# Altium footprint library Pin_Header_Series_PCB_Library_ARAF.PcbLib: 5 footprints
Each footprint in its own frame and in the unit in brackets; x right, y up, seen from the top. Pads: shape width x height; smd on the part's side, far side on the other; paste and mask are expansions set on the pad; w line width, h text height; cw(c..) or ccw(c..) is an arc to the next point about the centre after c.
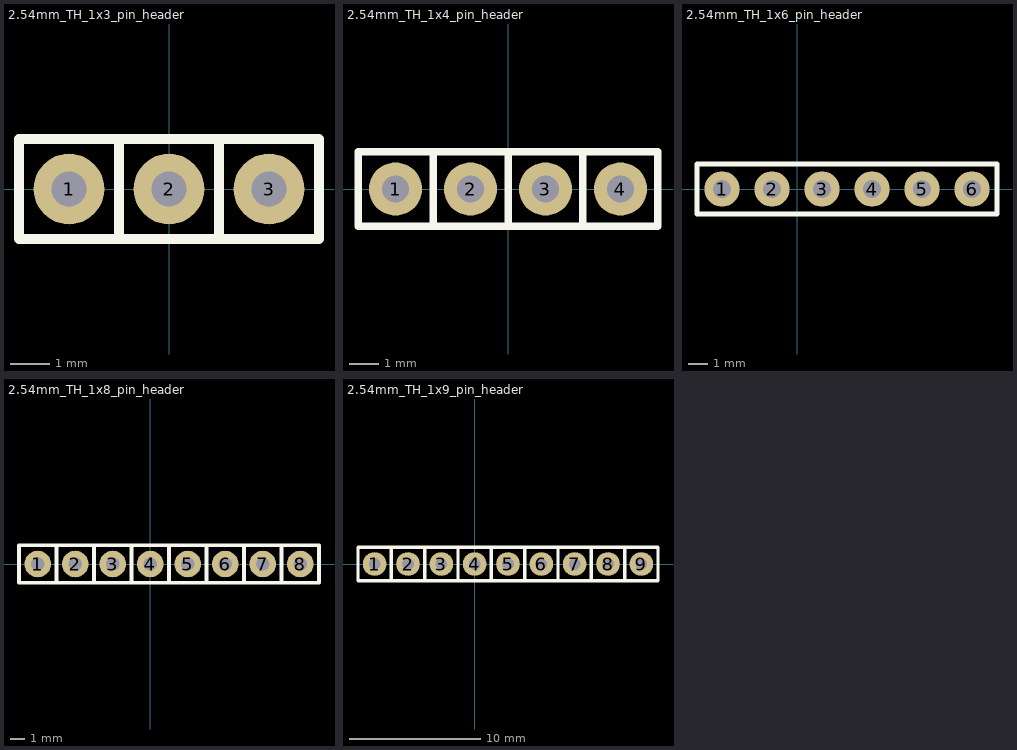
[diagram p0: the footprints below, top view; thin cyan lines are the x and y axes]

## 2.54mm_TH_1x3_pin_header [mm]
pads (3):
  round 1.8 hole 0.9: 1(-2.54,0) 2(0,0) 3(2.54,0)
Top Overlay:
  lines w0.254: -1.27,-1.27 -1.27,1.27 ; 1.27,-1.27 1.27,1.27 ; -3.81,-1.27 3.81,-1.27 3.81,1.27 -3.81,1.27 -3.81,-1.27
3D body "2.54_pin_header_1x3_yellow.STEP": height 8.6, standoff -3, extent -3.81,-1.25 3.81,1.25

## 2.54mm_TH_1x4_pin_header [mm]
pads (4):
  round 1.8 hole 0.9: 1(-3.81,0) 2(-1.27,0) 3(1.27,0) 4(3.81,0)
Top Overlay:
  lines w0.254: -2.54,-1.27 -2.54,1.27 ; 0,-1.27 0,1.27 ; 2.54,-1.27 2.54,1.27 ; -5.08,-1.27 -5.08,1.27 5.08,1.27 5.08,-1.27 -5.08,-1.27
3D body "2.54_pin_header_1x4_yellow.STEP": height 8.6, standoff -3, extent -5.08,-1.25 5.08,1.25

## 2.54mm_TH_1x6_pin_header [mm]
pads (6):
  round 1.8 hole 0.9: 1(-3.81,0) 2(-1.27,0) 3(1.27,0) 4(3.81,0) 5(6.35,0) 6(8.89,0)
Top Overlay:
  lines w0.254: -5.08,-1.27 -5.08,1.27 10.16,1.27 10.16,-1.27 -5.08,-1.27
3D body "2.54_pin_header_1x6_yellow.STEP": height 8.6, standoff -3, extent -5.08,-1.25 10.16,1.25

## 2.54mm_TH_1x8_pin_header [mm]
pads (8):
  round 1.8 hole 0.9: 1(-7.62,0) 2(-5.08,0) 3(-2.54,0) 4(0,0) 5(2.54,0) 6(5.08,0) 7(7.62,0) 8(10.16,0)
Top Overlay:
  lines w0.254: -6.35,-1.27 -6.35,1.27 ; -3.81,-1.27 -3.81,1.27 ; -1.27,-1.27 -1.27,1.27 ; 3.81,-1.27 3.81,1.27 ; 6.35,-1.27 6.35,1.27 ; 8.89,-1.27 8.89,1.27 ; 1.27,-1.27 -8.89,-1.27 -8.89,1.27 1.27,1.27 ; 1.27,-1.27 1.27,1.27 ; 1.27,-1.27 11.43,-1.27 11.43,1.27 1.27,1.27
3D body "2.54mm_pin_header_1x8_yellow.STEP": height 8.6, standoff -3, extent -8.89,-1.25 11.43,1.25

## 2.54mm_TH_1x9_pin_header [mm]
pads (9):
  round 1.8 hole 0.9: 1(-7.62,0) 2(-5.08,0) 3(-2.54,0) 4(0,0) 5(2.54,0) 6(5.08,0) 7(7.62,0) 8(10.16,0) 9(12.7,0)
Top Overlay:
  lines w0.254: -6.35,-1.27 -6.35,1.27 ; -3.81,-1.27 -3.81,1.27 ; -1.27,-1.27 -1.27,1.27 ; 3.81,-1.27 3.81,1.27 ; 6.35,-1.27 6.35,1.27 ; 8.89,-1.27 8.89,1.27 ; 11.43,-1.27 11.43,1.27 ; 1.27,-1.27 -8.89,-1.27 -8.89,1.27 1.27,1.27 ; 1.27,-1.27 1.27,1.27 ; 1.27,-1.27 13.97,-1.27 13.97,1.27 1.27,1.27
3D body "2.54_pin_header_1x9_yellow.STEP": height 8.6, standoff -3, extent -8.89,-1.25 13.97,1.25